# EAGLE library part MC100EPT22DG (library ON_Semiconductor_By_element14_Batch_1)
3.3V Dual LVTTL/LVCMOS to Differential LVPECL Translator
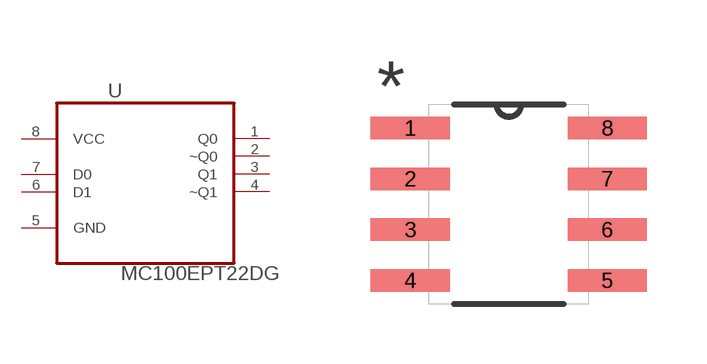
[diagram p131: symbol with the pads of SOIC127P600X175-8N; footprint SOIC127P600X175-8N]

Designator prefix U

## MC100EPT22DG (MPN: MC100EPT22DG; OC_FARNELL: 1607867; OC_NEWARK: 45J0924; PACKAGE: SOIC-8; SUPPLIER: Onsemiconductor)  [SOIC127P600X175-8N]
1  Q0  out
2  ~Q0  out
3  Q1  out
4  ~Q1  out
5  GND  pas
6  D1  in
7  D0  in
8  VCC  pwr

## Footprint SOIC127P600X175-8N (pad centres in mm)
smd 1.981 x 0.559: 1 -2.464,1.905; 2 -2.464,0.635; 3 -2.464,-0.635; 4 -2.464,-1.905; 5 2.464,-1.905; 6 2.464,-0.635; 7 2.464,0.635; 8 2.464,1.905